# Altium schematic symbol library Schlib1.SchLib: 3 symbols
Pins are listed as number, name and electrical type; pins without a type are passive.

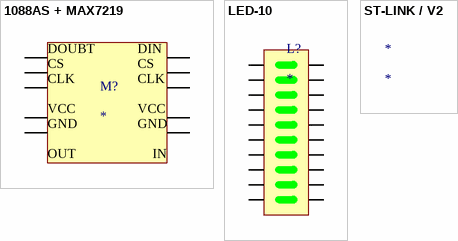
[diagram p0: symbols 1088AS + MAX7219 to ST-LINK / V2]

## 1088AS + MAX7219
designator M?
pins: 1, 2, 3, 4, 5, 6, 7, 8, 9, 10
text: DOUBT; DIN; CS; CLK; VCC; GND; OUT; IN

## LED-10
designator L?
pins: 1, 2, 3, 4, 5, 6, 7, 8, 9, 10, 11, 12, 13, 14, 15, 16, 17, 18, 19, 20

## ST-LINK / V2
designator *